# EAGLE library part MCP4651 (library JeeLabs)
Digital POTENTIOMETER
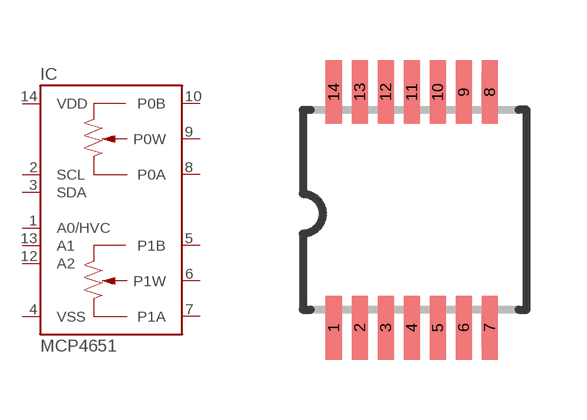
[diagram p11: symbol with the pads of TSSOP14; footprint TSSOP14]

Designator prefix IC

## MCP4651  [TSSOP14]
1  A0/HVC  in
2  SCL  in
3  SDA  in
4  VSS  pwr
5  P1B  pas
6  P1W  pas
7  P1A  pas
8  P0A  pas
9  P0W  pas
10  P0B  pas
12  A2  in
13  A1  in
14  VDD  pwr

## Footprint TSSOP14 (pad centres in mm)
TSOP16 thin small outline package
smd 0.4 x 1.6: 1 -2.225,-2.85; 2 -1.575,-2.85; 3 -0.925,-2.85; 4 -0.275,-2.85; 5 0.375,-2.85; 6 1.025,-2.85; 7 1.675,-2.85; 8 1.675,3.05; 9 1.025,3.05; 10 0.375,3.05; 11 -0.275,3.05; 12 -0.925,3.05; 13 -1.575,3.05; 14 -2.225,3.05